# Altium schematic symbol library HCTI-33-11.7.SchLib: 1 symbol
Pins are listed as number, name and electrical type; pins without a type are passive.

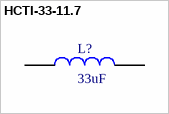
[diagram p0: symbol HCTI-33-11.7]

## HCTI-33-11.7
designator L?, comment 33uF
Inductor | 33 uH | TH; MP: HCTI-33-11.7; MF: Signal Transformer; Mouser-Purchase-URL: https://snapeda.com/shop?store=Mouser&id=1645904; Availability: Bad; Price: None; Package: Radial Bel Fuse; Value: *; SnapEDA_Link: https://www.snapeda.com/parts/HCTI-33-11.7/Signal%20Transformer/view-part/1645904/?ref=snap; Arrow_Electronics-Purchase-URL: https://snapeda.com/shop?store=Arrow+Electronics&id=1645904
footprint 33uF TH  Radial
pins: 1, 2